# Altium schematic symbol library Schlib1.SchLib: 14 symbols
Pins are listed as number, name and electrical type; pins without a type are passive.

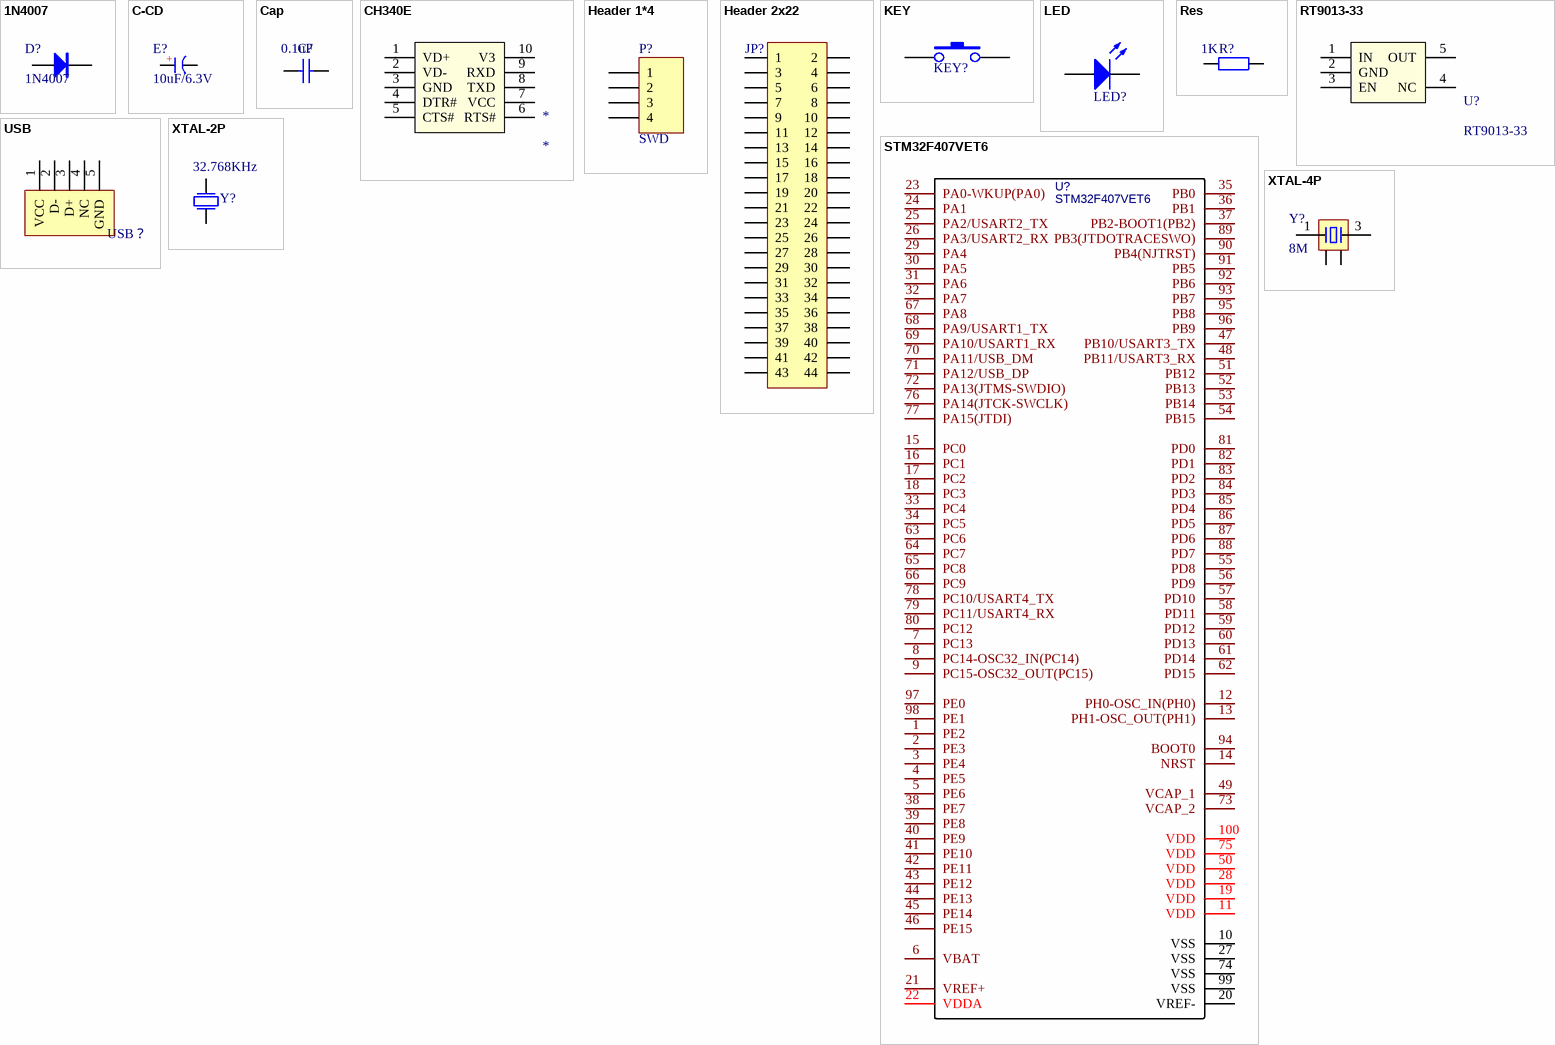
[diagram p0: symbols 1N4007 to XTAL-4P]

## 1N4007
designator D?
整流二极管; BOM名称: 整流二极管
footprint DO-41 (2.6*9.1mm(直径，脚距）)
footprint SOD-123 (2.7x1.6X1.1mm（长宽高，不包括引脚）)
footprint SMA (4.5x2.6*2.2mm（长宽高，不包括引脚）)
footprint DO-41V (2.6*3.5mm(直径，脚距）)
pins: 1 A, 2 K

## C-CD
designator E?, comment 10uF/6.3V
贴片钽电容; BOM名称: 贴片钽电容
footprint CD A(3216) (长3.2mm，宽1.6mm，厚1.6mm)
footprint CD B(3528) (长3.5mm，宽2.8mm，厚1.9mm)
footprint CD C(6032) (长6.0mm，宽3.2mm，厚2.5mm)
footprint CD D(7343) (长7.3mm，宽4.3mm，厚2.8mm)
footprint CD E(7343H) (长7.3mm，宽4.3mm，厚4.0mm)
footprint CD S(2012) (长2.0mm，宽1.25mm，厚1.2mm)
pins: 1 A, 2 K
text: +

## Cap
designator C?, comment 0.1uF
footprint C 0402_L (无极性贴片电容)
pins: 1, 2

## CH340E
designator *
footprint MSOP10_L (塑封体长3mm，宽3mm，脚距0.5)
pins: 1 VD+, 2 VD-, 3 GND, 4 DTR#, 5 CTS#, 6 RTS#, 7 VCC, 8 TXD, 9 RXD, 10 V3

## Header 1*4
designator P?, comment SWD
LatestRevisionDate: 17-Jul-2002; LatestRevisionNote: Re-released for DXP Platform.; Publisher: Altium Limited
footprint HDR2.54-WS-4P (4P卧式贴片排针2.54)
pins: 1, 2, 3, 4

## Header 2x22
designator JP?  (value not drawn)
2x22P接插件; BOM名称: 20*2P接插件
footprint HDR2.54-LI-2x22P (双排排针，20x2脚)
footprint HDR2.54-LI-2x20P (双排排针，20x2脚)
footprint HDR2.54-M-LS-2x20P (脚距：2.54mm，贴片双排母)
footprint HDR2.54-WI-2x20P (双排弯脚排针，20x2脚)
pins: 1, 2, 3, 4, 5, 6, 7, 8, 9, 10, 11, 12, 13, 14, 15, 16, 17, 18, 19, 20, 21, 22, 23, 24, 25, 26, 27, 28, 29, 30, 31, 32, 33, 34, 35, 36, 37, 38, 39, 40, 41, 42, 43, 44

## KEY
designator KEY?  (value not drawn)
footprint SWT3*4
pins: 1, 2

## LED
designator LED?  (value not drawn)
footprint LED 0603 (贴片带丝印)
pins: 1 A, 2 K

## Res
designator R?, comment 1K
footprint R 0402_L (1/16W贴片电阻)
pins: 1, 2

## RT9013-33
designator U?
footprint SOT23-5N (3x1.6x1.1mm(长宽高))
pins: 1 IN, 2 GND, 3 EN, 4 NC, 5 OUT

## STM32F407VET6
designator U?
BOM_Manufacturer: ST; subpart_no: 1; tags: STM32; BOM_Supplier Part: C28730; BOM_Supplier: LCSC; BOM_Manufacturer Part: STM32F407VET6; image: http://image.lceda.cn/szlcsc/C28730.jpg; spicePre: U; spiceSymbolName: STM32F407VET6
footprint LQFP100 14x14_N (100脚，体宽14x14mm，脚距0.5mm)
pins: 1 PE2, 2 PE3, 3 PE4, 4 PE5, 5 PE6, 6 VBAT, 7 PC13, 8 PC14-OSC32_IN(PC14), 9 PC15-OSC32_OUT(PC15), 10 VSS, 11 VDD, 12 PH0-OSC_IN(PH0), 13 PH1-OSC_OUT(PH1), 14 NRST, 15 PC0, 16 PC1, 17 PC2, 18 PC3, 19 VDD, 20 VREF-, 21 VREF+, 22 VDDA, 23 PA0-WKUP(PA0), 24 PA1, 25 PA2/USART2_TX, 26 PA3/USART2_RX, 27 VSS, 28 VDD, 29 PA4, 30 PA5, 31 PA6, 32 PA7, 33 PC4, 34 PC5, 35 PB0, 36 PB1, 37 PB2-BOOT1(PB2), 38 PE7, 39 PE8, 40 PE9, 41 PE10, 42 PE11, 43 PE12, 44 PE13, 45 PE14, 46 PE15, 47 PB10/USART3_TX, 48 PB11/USART3_RX, 49 VCAP_1, 50 VDD, 51 PB12, 52 PB13, 53 PB14, 54 PB15, 55 PD8, 56 PD9, 57 PD10, 58 PD11, 59 PD12, 60 PD13, 61 PD14, 62 PD15, 63 PC6, 64 PC7, 65 PC8, 66 PC9, 67 PA8, 68 PA9/USART1_TX, 69 PA10/USART1_RX, 70 PA11/USB_DM, 71 PA12/USB_DP, 72 PA13(JTMS-SWDIO), 73 VCAP_2, 74 VSS, 75 VDD, 76 PA14(JTCK-SWCLK), 77 PA15(JTDI), 78 PC10/USART4_TX, 79 PC11/USART4_RX, 80 PC12, 81 PD0, 82 PD1, 83 PD2, 84 PD3, 85 PD4, 86 PD5, 87 PD6, 88 PD7, 89 PB3(JTDOTRACESWO), 90 PB4(NJTRST), 91 PB5, 92 PB6, 93 PB7, 94 BOOT0, 95 PB8, 96 PB9, 97 PE0, 98 PE1, 99 VSS, 100 VDD

## USB
designator USB？  (value not drawn)
footprint USB-MICRO_E (micro型USB ，5.9*8.2*2.5mm)
pins: 1 VCC, 2 D-, 3 D+, 4 NC, 5 GND

## XTAL-2P
designator Y?, comment 32.768KHz
vaule: 32.768KHz
footprint JZ1
footprint JZ_O1
footprint JZ_O2
footprint FC135-3.2X1.5 (晶振)
footprint 3225
footprint 5032
footprint XTAL3
pins: 1 P1, 2 P2

## XTAL-4P
designator Y?, comment 8M
4脚无源晶振; 负载电容: CL20pF; BOM名称: 4脚无源晶振
footprint OSC 1612-4P (1.6*1.2*0.35mm（长宽高）)
footprint OSC 2025-4P (2*2.5*0.55mm(长宽高))
footprint OSC 3225-4P (3.2*2.5*0.7mm(长宽高))
footprint OSC 4025-4P (4*2.5*0.7mm(长宽高))
footprint OSC 5032-4P (5mm*3.2mm*0.8mm(长*宽*高))
footprint OSC 6035-4P (6mm*3.5mm*1mm(长*宽*高))
footprint OSC 7050-4P (7mm*5mm*1.3mm(长*宽*高))
footprint OSC 8045-4P (8mm*4.5mm*1.6mm(长*宽*高))
footprint OSC 8045-4P-C (8mm*4.5mm*1.8mm(长*宽*高))
pins: 1, 2, 3, 4